# Altium footprint library A_HDJ_Library.PcbLib: 42 footprints (part 1 of 3)
Each footprint in its own frame and in the unit in brackets; x right, y up, seen from the top. Pads: shape width x height; smd on the part's side, far side on the other; paste and mask are expansions set on the pad; w line width, h text height; cw(c..) or ccw(c..) is an arc to the next point about the centre after c.
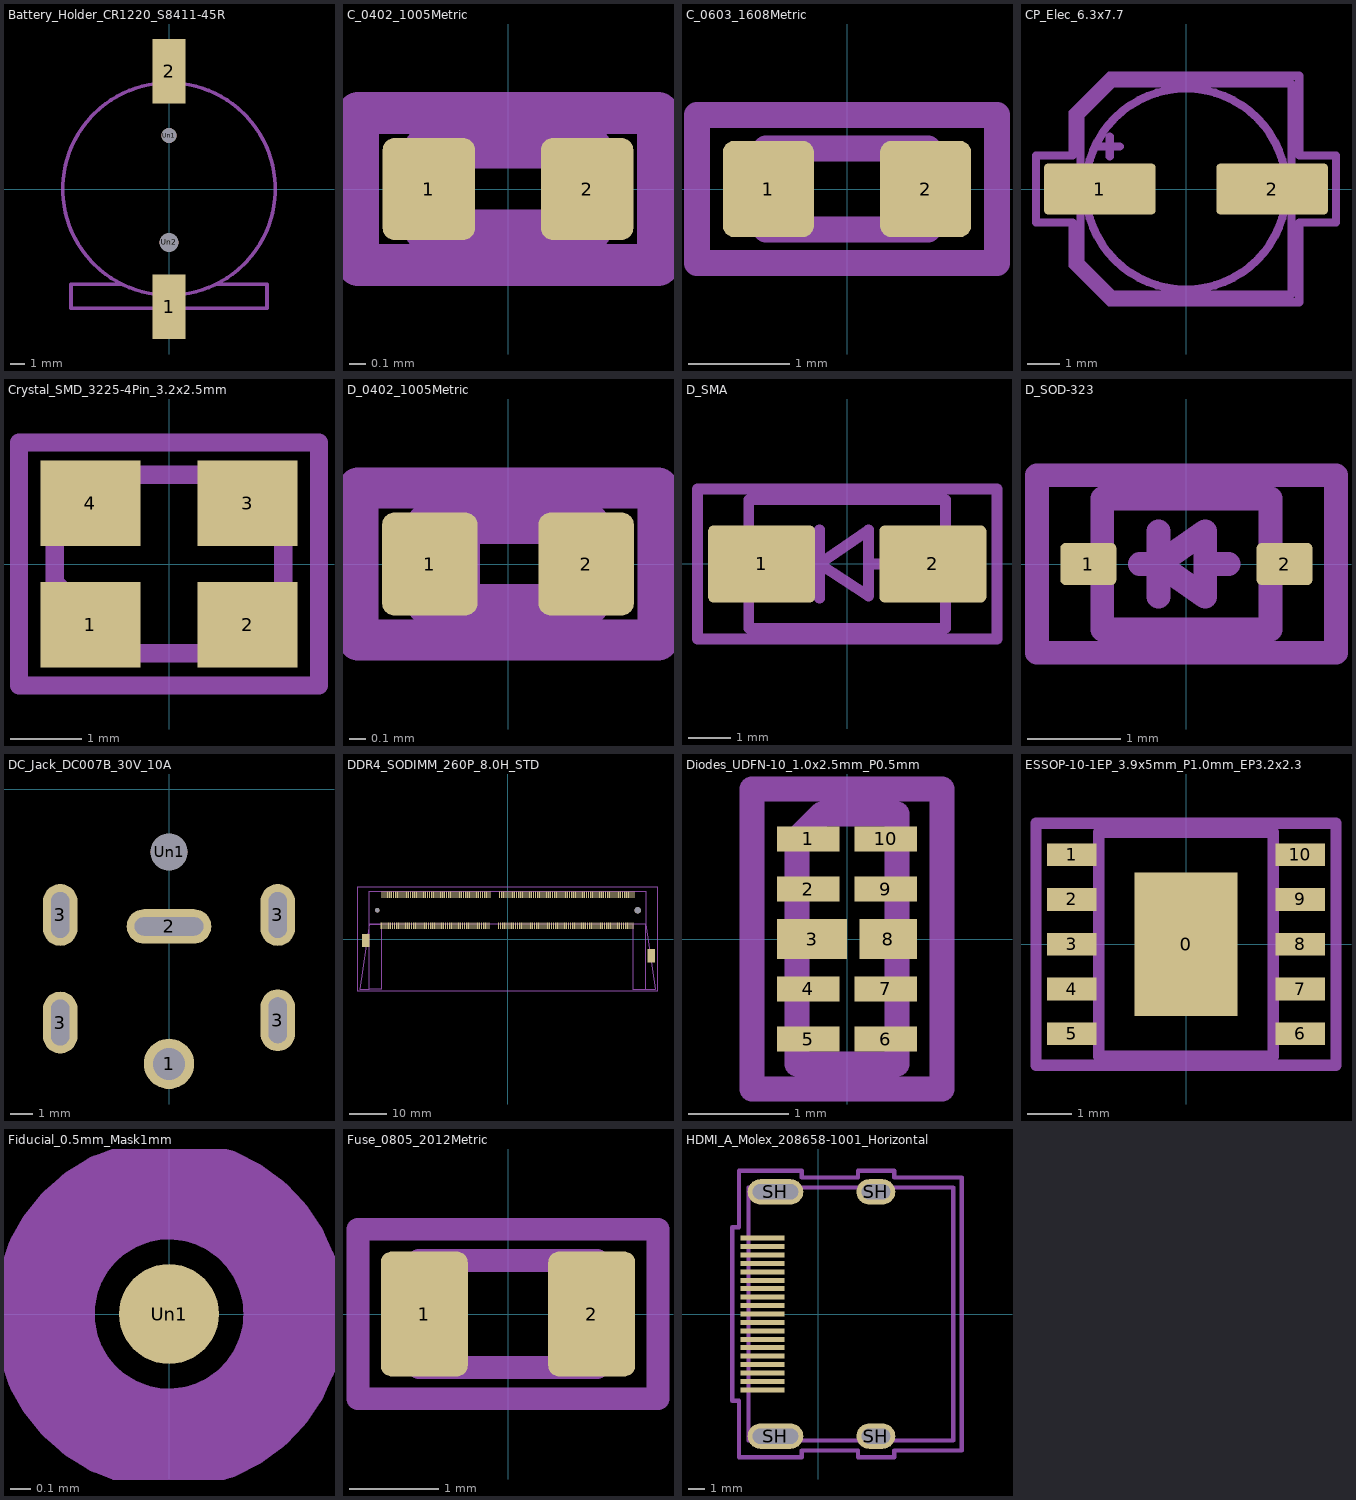
[diagram p0: the footprints below, top view; thin cyan lines are the x and y axes]

## Battery_Holder_CR1220_S8411-45R [mm]
pads (4):
  rect 2.3x4.5 smd: 1(0,-8.2) 2(0,8.2)
  round 1.05 hole 1.05: Un1(0,3.725)
  round 1.3 hole 1.3: Un2(0,-3.725)
F.SilkS:
  lines w0.254: -3.297,6.625 ccw(c0,0) -3.295,-6.626 ; -3.27,-6.625 -6.832,-6.625 -6.832,-8.307 -1.553,-8.307 ; 1.49,-8.307 6.832,-8.307 6.832,-6.625 3.296,-6.625 ; 3.295,6.626 cw(c0,0) 3.297,-6.625
F.Fab:
  circle w0.254: c0,0 r7.4
  lines w0.254: -3.297,-6.625 -6.832,-6.625 -6.832,-8.307 6.832,-8.307 6.832,-6.625 3.27,-6.625
  text "'.Designator'" at -2.238,-0.41 h1.27

## C_0402_1005Metric [mm]
pads (2):
  rrect25% 0.56x0.62 smd: 1(-0.48,0) 2(0.48,0)
F.SilkS:
  lines w0.254: -0.108,-0.36 0.108,-0.36 ; -0.108,0.36 0.108,0.36
F.Fab:
  lines w0.254: -0.5,-0.25 -0.5,0.25 0.5,0.25 0.5,-0.25 -0.5,-0.25
  text "'.Designator'" at -0.36,-0.1 h0.25
F.CrtYd:
  lines w0.254: -0.91,-0.46 -0.91,0.46 0.91,0.46 0.91,-0.46 -0.91,-0.46

## C_0603_1608Metric [mm]
pads (2):
  rrect25% 0.9x0.95 smd: 1(-0.775,0) 2(0.775,0)
F.SilkS:
  lines w0.254: -0.141,-0.51 0.141,-0.51 ; -0.141,0.51 0.141,0.51
F.Fab:
  lines w0.254: -0.8,-0.4 -0.8,0.4 0.8,0.4 0.8,-0.4 -0.8,-0.4
  text "'.Designator'" at -0.575,-0.159 h0.4
F.CrtYd:
  lines w0.254: -1.48,-0.73 -1.48,0.73 1.48,0.73 1.48,-0.73 -1.48,-0.73

## CP_Elec_6.3x7.7 [mm]
pads (2):
  rrect16% 3.5x1.6 smd: 1(-2.7,0) 2(2.7,0)
F.SilkS:
  lines w0.254: -4.437,1.847 -3.65,1.847 ; -4.044,1.454 -4.044,2.241 ; -3.41,-1.06 -3.41,-2.346 -2.346,-3.41 3.41,-3.41 3.41,-1.06 ; -3.41,1.06 -3.41,2.346 -2.346,3.41 3.41,3.41 3.41,1.06
F.Fab:
  circle w0.254: c0,0 r3.15
  lines w0.254: -2.705,1.33 -2.075,1.33 ; -2.39,1.015 -2.39,1.645 ; -3.3,-2.3 -3.3,2.3 -2.3,3.3 3.3,3.3 3.3,-3.3 -2.3,-3.3 -3.3,-2.3
  text "'.Designator'" at -1.44,-0.399 h1
F.CrtYd:
  lines w0.254: -4.7,-1.05 -4.7,1.05 -3.55,1.05 -3.55,2.4 -2.4,3.55 3.55,3.55 3.55,1.05 4.7,1.05 4.7,-1.05 3.55,-1.05 3.55,-3.55 -2.4,-3.55 -3.55,-2.4 -3.55,-1.05 -4.7,-1.05

## Crystal_SMD_3225-4Pin_3.2x2.5mm [mm]
pads (4):
  rect 1.4x1.2 smd: 1(-1.1,-0.85) 2(1.1,-0.85) 3(1.1,0.85) 4(-1.1,0.85)
F.SilkS:
  lines w0.254: -2,0 0,0 ; 0,-1.65 0,-0.01 ; -2,-1.65 -2,1.65 2,1.65 2,-1.65 -2,-1.65
F.Fab:
  lines w0.254: -1.6,-0.25 -0.6,-1.25 ; -1.6,-1.25 -1.6,1.25 1.6,1.25 1.6,-1.25 -1.6,-1.25
  text "'.Designator'" at -1.005,-0.279 h0.7
F.CrtYd:
  lines w0.254: -2.1,-1.7 -2.1,1.7 2.1,1.7 2.1,-1.7 -2.1,-1.7

## D_0402_1005Metric [mm]
pads (2):
  rrect25% 0.59x0.64 smd: 1(-0.485,0) 2(0.485,0)
F.SilkS:
  region: 0.1,-0.25 -0.09,0 0.1,0.25
  lines w0.254: -0.09,-0.25 -0.09,0.25
F.Fab:
  lines w0.254: -0.4,-0.25 -0.4,0.25 ; -0.3,-0.25 -0.3,0.25 ; -0.5,-0.25 -0.5,0.25 0.5,0.25 0.5,-0.25 -0.5,-0.25
  text "'.Designator'" at -0.36,-0.1 h0.25
F.CrtYd:
  lines w0.254: -0.93,-0.47 -0.93,0.47 0.93,0.47 0.93,-0.47 -0.93,-0.47

## D_SMA [mm]
pads (2):
  rrect14% 2.5x1.8 smd: 1(-2,0) 2(2,0)
F.SilkS:
  lines w0.254: -0.65,-0.79 -0.65,0.81 ; 2,-1.65 -3.51,-1.65 -3.51,1.65 2,1.65 ; -0.65,0.01 0.501,0.81 0.501,-0.739 -0.65,0.01
F.Fab:
  lines w0.254: -1.551,-0.001 -0.649,-0.001 ; -0.649,-0.801 -0.649,0.799 ; 0.501,-0.001 1.499,-0.001 ; -0.649,-0.001 0.501,0.799 0.501,-0.75 -0.649,-0.001 ; -2.3,-1.5 -2.3,1.5 2.3,1.5 2.3,-1.5 -2.3,-1.5
  text "'.Designator'" at -1.44,2.101 h1
F.CrtYd:
  lines w0.254: -3.5,-1.75 -3.5,1.75 3.5,1.75 3.5,-1.75 -3.5,-1.75

## D_SOD-323 [mm]
pads (2):
  rrect25% 0.6x0.45 smd: 1(-1.05,0) 2(1.05,0)
F.SilkS:
  lines w0.254: -0.525,0 -0.325,0 ; -0.325,-0.35 -0.325,0.35 ; 0.175,0 0.425,0 ; 1.05,-0.85 -1.61,-0.85 -1.61,0.85 1.05,0.85 ; -0.325,0 0.175,0.35 0.175,-0.35 -0.325,0
F.Fab:
  lines w0.254: -0.5,0 -0.3,0 ; -0.3,-0.35 -0.3,0.35 ; 0.2,0 0.45,0 ; -0.3,0 0.2,0.35 0.2,-0.35 -0.3,0 ; -0.9,-0.7 -0.9,0.7 0.9,0.7 0.9,-0.7 -0.9,-0.7
  text "'.Designator'" at -1.44,1.451 h1
F.CrtYd:
  lines w0.254: -1.6,-0.95 -1.6,0.95 1.6,0.95 1.6,-0.95 -1.6,-0.95

## DC_Jack_DC007B_30V_10A [mm]
pads (7):
  round 2.2 hole 1.4: 1(0,-12)
  rrect100% 3.7x1.5 hole 3 slot 0.8 at 90 deg: 2(0,-6)
  rrect100% 1.5x2.7 hole 2 slot 0.8 at 0 deg: 3(-4.75,-10.2) 3(-4.75,-5.5) 3(4.75,-10.1) 3(4.75,-5.5)
  round 1.6 hole 1.6: Un1(0,-2.75)
F.SilkS:
  lines w0.254: -5,-13 5,-13 5,0 -5,0 -5,-13
F.Fab:
  text "'.Designator'" at -1.44,-2.899 h1

## DDR4_SODIMM_260P_8.0H_STD [mm]
pads (264):
  rect 0.3x1.75 smd: 1(33.375,11.688) 2(33.125,3.488) 3(32.875,11.688) 4(32.625,3.488) 5(32.375,11.688) 6(32.125,3.488) 7(31.875,11.688) 8(31.625,3.488) 9(31.375,11.688) 10(31.125,3.488) 11(30.875,11.688) 12(30.625,3.488) 13(30.375,11.688) 14(30.125,3.488) 15(29.875,11.688) 16(29.625,3.488) 17(29.375,11.688) 18(29.125,3.488) 19(28.875,11.688) 20(28.625,3.488) 21(28.375,11.688) 22(28.125,3.488) 23(27.875,11.688) 24(27.625,3.488) 25(27.375,11.688) 26(27.125,3.488) 27(26.875,11.688) 28(26.625,3.488) 29(26.375,11.688) 30(26.125,3.488) 31(25.875,11.688) 32(25.625,3.488) 33(25.375,11.688) 34(25.125,3.488) 35(24.875,11.688) 36(24.625,3.488) 37(24.375,11.688) 38(24.125,3.488) 39(23.875,11.688) 40(23.625,3.488) 41(23.375,11.688) 42(23.125,3.488) 43(22.875,11.688) 44(22.625,3.488) 45(22.375,11.688) 46(22.125,3.488) 47(21.875,11.688) 48(21.625,3.488) 49(21.375,11.688) 50(21.125,3.488) 51(20.875,11.688) 52(20.625,3.488) 53(20.375,11.688) 54(20.125,3.488) 55(19.875,11.688) 56(19.625,3.488) 57(19.375,11.688) 58(19.125,3.488) 59(18.875,11.688) 60(18.625,3.488) 61(18.375,11.688) 62(18.125,3.488) 63(17.875,11.688) 64(17.625,3.488) 65(17.375,11.688) 66(17.125,3.488) 67(16.875,11.688) 68(16.625,3.488) 69(16.375,11.688) 70(16.125,3.488) 71(15.875,11.688) 72(15.625,3.488) 73(15.375,11.688) 74(15.125,3.488) 75(14.875,11.688) 76(14.625,3.488) 77(14.375,11.688) 78(14.125,3.488) 79(13.875,11.688) 80(13.625,3.488) 81(13.375,11.688) 82(13.125,3.488) 83(12.875,11.688) 84(12.625,3.488) 85(12.375,11.688) 86(12.125,3.488) 87(11.875,11.688) 88(11.625,3.488) 89(11.375,11.688) 90(11.125,3.488) 91(10.875,11.688) 92(10.625,3.488) 93(10.375,11.688) 94(10.125,3.488) 95(9.875,11.688) 96(9.625,3.488) 97(9.375,11.688) 98(9.125,3.488) 99(8.875,11.688) 100(8.625,3.488) 101(8.375,11.688) 102(8.125,3.488) 103(7.875,11.688) 104(7.625,3.488) 105(7.375,11.688) 106(7.125,3.488) 107(6.875,11.688) 108(6.625,3.488) 109(6.375,11.688) 110(6.125,3.488) 111(5.875,11.688) 112(5.625,3.488) 113(5.375,11.688) 114(5.125,3.488) 115(4.875,11.688) 116(4.625,3.488) 117(4.375,11.688) 118(4.125,3.488) 119(3.875,11.688) 120(3.625,3.488) 121(3.375,11.688) 122(3.125,3.488) 123(2.875,11.688) 124(2.625,3.488) 125(2.375,11.688) 126(2.125,3.488) 127(1.875,11.688) 128(1.625,3.488) 129(1.375,11.688) 130(1.125,3.488) 131(0.875,11.688) 132(0.625,3.488) 133(0.375,11.688) 134(0.125,3.488) 135(-0.125,11.688) 136(-0.375,3.488) 137(-0.625,11.688) 138(-0.875,3.488) 139(-1.125,11.688) 140(-1.375,3.488) 141(-1.625,11.688) 142(-1.875,3.488) 143(-2.125,11.688) 144(-2.375,3.488) 145(-4.625,11.688) 146(-4.875,3.488) 147(-5.125,11.688) 148(-5.375,3.488) 149(-5.625,11.688) 150(-5.875,3.488) 151(-6.125,11.688) 152(-6.375,3.488) 153(-6.625,11.688) 154(-6.875,3.488) 155(-7.125,11.688) 156(-7.375,3.488) 157(-7.625,11.688) 158(-7.875,3.488) 159(-8.125,11.688) 160(-8.375,3.488) 161(-8.625,11.688) 162(-8.875,3.488) 163(-9.125,11.688) 164(-9.375,3.488) 165(-9.625,11.688) 166(-9.875,3.488) 167(-10.125,11.688) 168(-10.375,3.488) 169(-10.625,11.688) 170(-10.875,3.488) 171(-11.125,11.688) 172(-11.375,3.488) 173(-11.625,11.688) 174(-11.875,3.488) 175(-12.125,11.688) 176(-12.375,3.488) 177(-12.625,11.688) 178(-12.875,3.488) 179(-13.125,11.688) 180(-13.375,3.488) 181(-13.625,11.688) 182(-13.875,3.488) 183(-14.125,11.688) 184(-14.375,3.488) 185(-14.625,11.688) 186(-14.875,3.488) 187(-15.125,11.688) 188(-15.375,3.488) 189(-15.625,11.688) 190(-15.875,3.488) 191(-16.125,11.688) 192(-16.375,3.488) 193(-16.625,11.688) 194(-16.875,3.488) 195(-17.125,11.688) 196(-17.375,3.488) 197(-17.625,11.688) 198(-17.875,3.488) 199(-18.125,11.688) 200(-18.375,3.488) 201(-18.625,11.688) 202(-18.875,3.488) 203(-19.125,11.688) 204(-19.375,3.488) 205(-19.625,11.688) 206(-19.875,3.488) 207(-20.125,11.688) 208(-20.375,3.488) 209(-20.625,11.688) 210(-20.875,3.488) 211(-21.125,11.688) 212(-21.375,3.488) 213(-21.625,11.688) 214(-21.875,3.488) 215(-22.125,11.688) 216(-22.375,3.488) 217(-22.625,11.688) 218(-22.875,3.488) 219(-23.125,11.688) 220(-23.375,3.488) 221(-23.625,11.688) 222(-23.875,3.488) 223(-24.125,11.688) 224(-24.375,3.488) 225(-24.625,11.688) 226(-24.875,3.488) 227(-25.125,11.688) 228(-25.375,3.488) 229(-25.625,11.688) 230(-25.875,3.488) 231(-26.125,11.688) 232(-26.375,3.488) 233(-26.625,11.688) 234(-26.875,3.488) 235(-27.125,11.688) 236(-27.375,3.488) 237(-27.625,11.688) 238(-27.875,3.488) 239(-28.125,11.688) 240(-28.375,3.488) 241(-28.625,11.688) 242(-28.875,3.488) 243(-29.125,11.688) 244(-29.375,3.488) 245(-29.625,11.688) 246(-29.875,3.488) 247(-30.125,11.688) 248(-30.375,3.488) 249(-30.625,11.688) 250(-30.875,3.488) 251(-31.125,11.688) 252(-31.375,3.488) 253(-31.625,11.688) 254(-31.875,3.488) 255(-32.125,11.688) 256(-32.375,3.488) 257(-32.625,11.688) 258(-32.875,3.488) 259(-33.125,11.688) 260(-33.375,3.488)
  rect 2x3.5 smd: MP1(38,-4.412) MP2(-37.5,-0.412)
  round 1.15 hole 1.15: Un1(-34.4,7.588)
  round 1.65 hole 1.65: Un2(34.4,7.588)
F.SilkS:
  lines w0.254: -34.5,3.838 -36.5,3.838 -36.5,12.588 -34,12.588 ; -4,3.838 -3,3.838 ; -4,12.588 -3,12.588 ; 33.3,13.162 cw(c33.4,13.163) 33.5,13.163 ; 33.3,13.163 ccw(c33.4,13.163) 33.5,13.162 ; 34,3.838 36.5,3.838 36.5,12.588 34.5,12.588
F.Fab:
  lines w0.254: -36.5,-13.262 -39,-13.262 -36.5,3.838 ; -36.5,-13.262 -36.5,3.838 ; -36.5,-13.262 -33.375,-13.262 -33.375,3.838 -36.5,3.838 ; -36.5,3.838 -36.5,12.588 36.5,12.588 36.5,3.838 ; -36.5,3.838 36.5,3.838 ; 36.5,-13.262 33.125,-13.262 33.125,3.838 36.5,3.838 ; 36.5,-13.262 36.5,3.838 ; 36.5,-13.262 39,-13.262 36.5,3.838
  text "'.Designator'" at -1.826,-0.506 h1.27
F.CrtYd:
  lines w0.254: -39.5,-13.762 -39.5,13.762 39.5,13.762 39.5,-13.762 -39.5,-13.762

## DFLOGO1 [mm]

## Diodes_UDFN-10_1.0x2.5mm_P0.5mm [mm]
pads (10):
  rect 0.625x0.25 smd: 1(-0.387,1) 2(-0.387,0.5) 4(-0.387,-0.5) 5(-0.387,-1) 6(0.387,-1) 7(0.387,-0.5) 9(0.387,0.5) 10(0.387,1)
  rect 0.7x0.4 smd: 3(-0.35,0)
  rect 0.575x0.4 smd: 8(0.413,0)
F.SilkS:
  lines w0.254: -0.5,-1.35 0.5,-1.35 ; 0,1.35 0.5,1.35
F.Fab:
  lines w0.254: -0.5,-1.25 -0.5,1 -0.25,1.25 0.5,1.25 0.5,-1.25 -0.5,-1.25
  text "'.Designator'" at 0.219,-0.79 h0.55
F.CrtYd:
  lines w0.254: -0.95,-1.5 -0.95,1.5 0.95,1.5 0.95,-1.5 -0.95,-1.5

## ESSOP-10-1EP_3.9x5mm_P1.0mm_EP3.2x2.3 [mm]
pads (11):
  rect 2.3x3.2 smd: 0(0,0)
  rect 1.1x0.51 smd: 1(-2.55,2) 2(-2.55,1) 3(-2.55,0) 4(-2.55,-1) 5(-2.55,-2) 6(2.55,-2) 7(2.55,-1) 8(2.55,0) 9(2.55,1) 10(2.55,2)
F.SilkS:
  circle w0.254: c-2.18,2.71 r0.22
  region: -2.094,2.917 -2.021,2.869 -1.973,2.796 -1.955,2.71 -1.973,2.624 -2.021,2.551 -2.094,2.503 -2.18,2.485 -2.266,2.503 -2.339,2.551 -2.387,2.624 -2.405,2.71 -2.387,2.796 -2.339,2.869 -2.266,2.917 -2.18,2.935
  lines w0.254: -1.94,-2.5 -1.94,2.5 1.96,2.5 1.96,-2.5 -1.94,-2.5
F.Fab:
  lines w0.254: -1.95,-2.5 -1.95,2.5 1.95,2.5 1.95,-2.5 -1.95,-2.5
  text "'.Designator'" at -1.44,-2.899 h1
  text "'.Designator'" at -1.32,3.071 h1
F.CrtYd:
  lines w0.254: -3.35,-2.7 -3.35,2.7 3.35,2.7 3.35,-2.7 -3.35,-2.7

## Fiducial_0.5mm_Mask1mm [mm]
pads (1):
  round 0.5 smd: Un1(0,0)
F.Fab:
  circle w0.254: c0,0 r0.5
  text "'.Designator'" at -0.288,-0.08 h0.2
F.CrtYd:
  circle w0.254: c0,0 r0.75

## Fuse_0805_2012Metric [mm]
pads (2):
  rrect25% 0.975x1.4 smd: 1(-0.937,0) 2(0.937,0)
F.SilkS:
  lines w0.254: -0.259,-0.71 0.259,-0.71 ; -0.259,0.71 0.259,0.71
F.Fab:
  lines w0.254: -1,-0.6 -1,0.6 1,0.6 1,-0.6 -1,-0.6
  text "'.Designator'" at -0.72,-0.2 h0.5
F.CrtYd:
  lines w0.254: -1.68,-0.95 -1.68,0.95 1.68,0.95 1.68,-0.95 -1.68,-0.95

## HDMI_A_Molex_208658-1001_Horizontal [mm]
pads (23):
  rect 2.6x0.3 smd: 1(-3.285,4.5) 2(-3.285,4) 3(-3.285,3.5) 4(-3.285,3) 5(-3.285,2.5) 6(-3.285,2) 7(-3.285,1.5) 8(-3.285,1) 9(-3.285,0.5) 10(-3.285,0) 11(-3.285,-0.5) 12(-3.285,-1) 13(-3.285,-1.5) 14(-3.285,-2) 15(-3.285,-2.5) 16(-3.285,-3) 17(-3.285,-3.5) 18(-3.285,-4) 19(-3.285,-4.5)
  rrect100% 3.3x1.5 hole 0.9 slot 2.7 at 0 deg: SH(-2.525,-7.25) SH(-2.525,7.25)
  rrect100% 2.3x1.5 hole 0.9 slot 1.7 at 0 deg: SH(3.435,-7.25) SH(3.435,7.25)
Dwgs.User:
  lines w0.254: 7.025,-7.5 7.025,7.5
  text "PCB Edge" at 6.098,-1.118 h1
F.SilkS:
  lines w0.254: -4.985,4.9 -4.235,4.9 -4.235,6.7 ; -4.235,-6.7 -4.235,-4.9 ; -0.685,-7.61 2.115,-7.61 ; -0.685,7.61 2.115,7.61 ; 4.815,-7.61 6.915,-7.61 ; 4.815,7.61 6.915,7.61
F.Fab:
  lines w0.254: -4.125,-7.5 -4.125,7.5 8.025,7.5 8.025,-7.5 -4.125,-7.5
  text "'.Designator'" at 0.275,-0.399 h1
F.CrtYd:
  lines w0.254: -5.09,-5.15 -5.09,5.15 -4.69,5.15 -4.69,8.5 -0.96,8.5 -0.96,8.1 2.37,8.1 2.37,8.5 4.52,8.5 4.52,8.1 8.53,8.1 8.53,-8.1 4.52,-8.1 4.52,-8.5 2.37,-8.5 2.37,-8.1 -0.96,-8.1 -0.96,-8.5 -4.69,-8.5 -4.69,-5.15 -5.09,-5.15